# Altium footprint library pth-mov.PcbLib: 5 footprints
Each footprint in its own frame and in the unit in brackets; x right, y up, seen from the top. Pads: shape width x height; smd on the part's side, far side on the other; paste and mask are expansions set on the pad; w line width, h text height; cw(c..) or ccw(c..) is an arc to the next point about the centre after c.
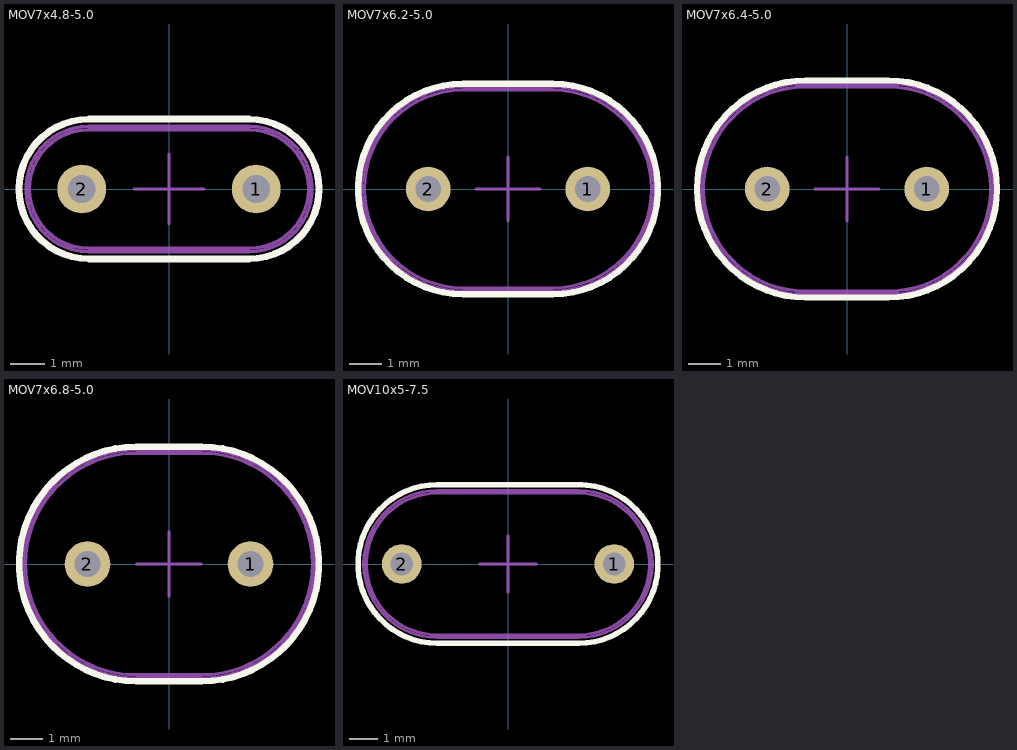
[diagram p0: the footprints below, top view; thin cyan lines are the x and y axes]

## MOV7x4.8-5.0 [mm] "MOV RADIAL 7x4.6mm, 5.0mm Pitch"
height 20
pads (2):
  round 1.4 hole 0.8: 1(2.5,0) 2(-2.5,0)
Top Overlay:
  lines w0.2: -2.3,-2 cw(c-2.3,0) -2.3,2 2.3,2 cw(c2.3,0) 2.3,-2 -2.3,-2
Mechanical 1:
  lines w0.1: -2.3,-1.7 2.3,-1.7 ; -2.3,1.7 2.3,1.7
Mechanical 13:
  lines w0.1: -2.3,-1.7 cw(c-2.3,0) -2.3,1.7 ; -1,0 1,0 ; 0,-1 0,1 ; 2.3,-1.7 ccw(c2.3,0) 2.3,1.7
Mechanical 15:
  lines w0.1: -2.3,-1.8 cw(c-2.3,0) -2.3,1.8 2.3,1.8 cw(c2.3,0) 2.3,-1.8 -2.3,-1.8
  text ".Designator" at -2.9,-0.4 h1
3D body: height 10.5, standoff -2.07, extent -4,-1.26 4,1.25

## MOV7x6.2-5.0 [mm] "MOV RADIAL 7x6.2mm, 5.0mm Pitch"
height 20
pads (2):
  round 1.4 hole 0.8: 1(2.5,0) 2(-2.5,0)
Top Overlay:
  lines w0.2: -1.4,-3.3 cw(c-1.4,0) -1.4,3.3 1.4,3.3 cw(c1.4,0) 1.4,-3.3 -1.4,-3.3
Mechanical 1:
  lines w0.1: -1.4,-3.1 1.4,-3.1 ; -1.4,3.1 1.4,3.1
Mechanical 13:
  lines w0.1: -1.4,-3.1 cw(c-1.4,0) -1.4,3.1 ; -1,0 1,0 ; 0,-1 0,1 ; 1.4,-3.1 ccw(c1.4,0) 1.4,3.1
Mechanical 15:
  lines w0.1: 1.4,-3.2 -1.4,-3.2 cw(c-1.4,0) -1.4,3.2 1.399,3.2 ; 1.4,-3.2 ccw(c1.4,0) 1.4,3.2
  text ".Designator" at -2.9,-0.4 h1
3D body: height 13, standoff -3, extent -4.5,-3.25 4.5,3.25

## MOV7x6.4-5.0 [mm] "MOV RADIAL 7x6.4mm, 5.0mm Pitch"
height 20
pads (2):
  round 1.4 hole 0.8: 1(2.5,0) 2(-2.5,0)
Top Overlay:
  lines w0.2: -1.3,-3.4 cw(c-1.3,0) -1.3,3.4 1.3,3.4 cw(c1.3,0) 1.3,-3.4 -1.3,-3.4
Mechanical 1:
  lines w0.1: -1.3,-3.2 1.3,-3.2 ; -1.3,3.2 1.3,3.2
Mechanical 13:
  lines w0.1: -1.3,-3.2 cw(c-1.3,0) -1.3,3.2 ; -1,0 1,0 ; 0,-1 0,1 ; 1.3,-3.2 ccw(c1.3,0) 1.3,3.2
Mechanical 15:
  lines w0.1: 1.3,3.3 -1.3,3.3 ccw(c-1.3,0) -1.3,-3.3 1.3,-3.3 ccw(c1.3,0) 1.3,3.3
  text ".Designator" at -2.9,-0.4 h1
3D body: height 13, standoff -3, extent -4.5,-3.25 4.5,3.25

## MOV7x6.8-5.0 [mm] "MOV RADIAL 7x6.8mm, 5.0mm Pitch"
height 20
pads (2):
  round 1.4 hole 0.8: 1(2.5,0) 2(-2.5,0)
Top Overlay:
  lines w0.2: -1,-3.6 cw(c-1,0) -1,3.6 1,3.6 cw(c1,0) 1,-3.6 -1,-3.6
Mechanical 1:
  lines w0.1: -1,-3.4 1,-3.4 ; -1,3.4 1,3.4
Mechanical 13:
  lines w0.1: -1,-3.4 cw(c-1,0) -1,3.4 ; -1,0 1,0 ; 0,-1 0,1 ; 1,-3.4 ccw(c1,0) 1,3.4
Mechanical 15:
  lines w0.1: -1,-3.5 cw(c-1,0) -1,3.5 1,3.5 cw(c1,0) 1,-3.5 -1,-3.5
  text ".Designator" at -2.9,-0.4 h1
3D body: height 13, standoff -3, extent -4.5,-3.25 4.5,3.25

## MOV10x5-7.5 [mm] "MOV RADIAL 10x5mm, 7.5mm Pitch"
height 20
pads (2):
  round 1.4 hole 0.8: 1(3.75,0) 2(-3.75,0)
Top Overlay:
  lines w0.2: 2.5,2.8 cw(c2.5,0) 2.5,-2.8 -2.5,-2.8 cw(c-2.5,0) -2.5,2.8 2.6,2.8
Mechanical 1:
  lines w0.1: -2.5,-2.5 2.5,-2.5 ; -2.5,2.5 2.5,2.5
Mechanical 13:
  lines w0.1: -2.5,-2.5 cw(c-2.5,0) -2.5,2.5 ; -1,0 1,0 ; 0,-1 0,1 ; 2.5,-2.5 ccw(c2.5,0) 2.5,2.5
Mechanical 15:
  lines w0.1: -2.5,-2.6 cw(c-2.5,0) -2.5,2.6 2.5,2.6 cw(c2.5,0) 2.5,-2.6 -2.5,-2.6
  text ".Designator" at -2.9,-0.4 h1